# Altium schematic symbol library PCB_Project.SCHLIB: 1 symbol
Pins are listed as number, name and electrical type; pins without a type are passive.

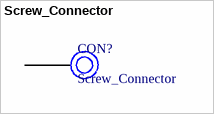
[diagram p0: symbol Screw_Connector]

## Screw_Connector
designator CON?
footprint Screw6x6
pins: 1